# EAGLE library part ALEXIOS_5M570Z (library video-max5)
Altera MAX V CPLD, 570 Logic Elements
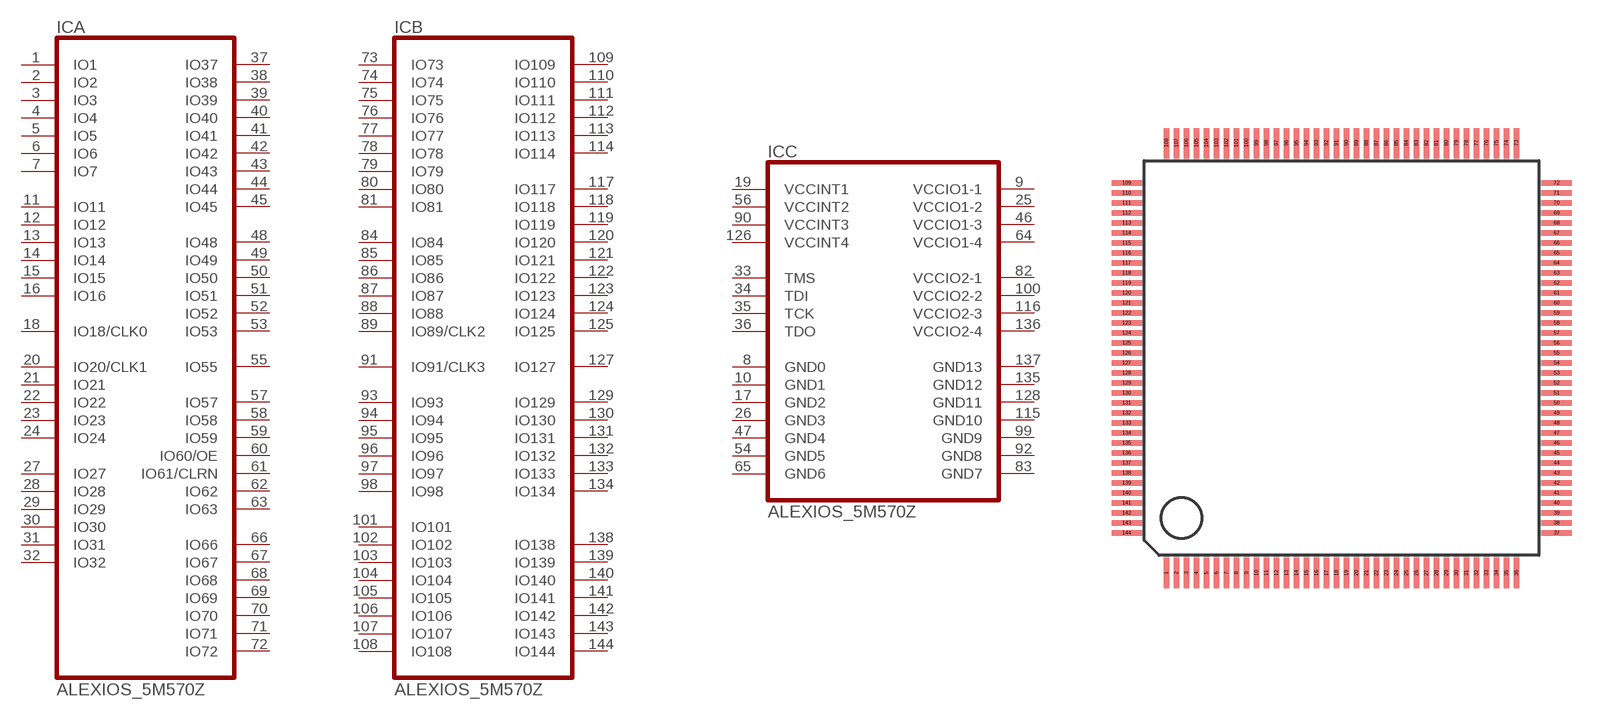
[diagram p0: symbol with the pads of ALEXIOS_TQFP144; footprint ALEXIOS_TQFP144]

Designator prefix IC; gates A=ALEXIOS_MAXV-BANK1 B=ALEXIOS_MAXV-BANK2 C=ALEXIOS_MAXV-POWER

## ALEXIOS_5M570ZT144  [ALEXIOS_TQFP144]
1  A:IO1
2  A:IO2
3  A:IO3
4  A:IO4
5  A:IO5
6  A:IO6
7  A:IO7
8  C:GND0  pwr
9  C:VCCIO1-1  pwr
10  C:GND1  pwr
11  A:IO11
12  A:IO12
13  A:IO13
14  A:IO14
15  A:IO15
16  A:IO16
17  C:GND2  pwr
18  A:IO18/CLK0
19  C:VCCINT1  pwr
20  A:IO20/CLK1
21  A:IO21
22  A:IO22
23  A:IO23
24  A:IO24
25  C:VCCIO1-2  pwr
26  C:GND3  pwr
27  A:IO27
28  A:IO28
29  A:IO29
30  A:IO30
31  A:IO31
32  A:IO32
33  C:TMS
34  C:TDI
35  C:TCK
36  C:TDO
37  A:IO37
38  A:IO38
39  A:IO39
40  A:IO40
41  A:IO41
42  A:IO42
43  A:IO43
44  A:IO44
45  A:IO45
46  C:VCCIO1-3  pwr
47  C:GND4  pwr
48  A:IO48
49  A:IO49
50  A:IO50
51  A:IO51
52  A:IO52
53  A:IO53
54  C:GND5  pwr
55  A:IO55
56  C:VCCINT2  pwr
57  A:IO57
58  A:IO58
59  A:IO59
60  A:IO60/OE
61  A:IO61/CLRN
62  A:IO62
63  A:IO63
64  C:VCCIO1-4  pwr
65  C:GND6  pwr
66  A:IO66
67  A:IO67
68  A:IO68
69  A:IO69
70  A:IO70
71  A:IO71
72  A:IO72
73  B:IO73
74  B:IO74
75  B:IO75
76  B:IO76
77  B:IO77
78  B:IO78
79  B:IO79
80  B:IO80
81  B:IO81
82  C:VCCIO2-1  pwr
83  C:GND7  pwr
84  B:IO84
85  B:IO85
86  B:IO86
87  B:IO87
88  B:IO88
89  B:IO89/CLK2
90  C:VCCINT3  pwr
91  B:IO91/CLK3
92  C:GND8  pwr
93  B:IO93
94  B:IO94
95  B:IO95
96  B:IO96
97  B:IO97
98  B:IO98
99  C:GND9  pwr
100  C:VCCIO2-2  pwr
101  B:IO101
102  B:IO102
103  B:IO103
104  B:IO104
105  B:IO105
106  B:IO106
107  B:IO107
108  B:IO108
109  B:IO109
110  B:IO110
111  B:IO111
112  B:IO112
113  B:IO113
114  B:IO114
115  C:GND10  pwr
116  C:VCCIO2-3  pwr
117  B:IO117
118  B:IO118
119  B:IO119
120  B:IO120
121  B:IO121
122  B:IO122
123  B:IO123
124  B:IO124
125  B:IO125
126  C:VCCINT4  pwr
127  B:IO127
128  C:GND11  pwr
129  B:IO129
130  B:IO130
131  B:IO131
132  B:IO132
133  B:IO133
134  B:IO134
135  C:GND12  pwr
136  C:VCCIO2-4  pwr
137  C:GND13  pwr
138  B:IO138
139  B:IO139
140  B:IO140
141  B:IO141
142  B:IO142
143  B:IO143
144  B:IO144

## Footprint ALEXIOS_TQFP144 (pad centres in mm)
Thin Quad Flat Pack
smd 0.27 x 1.5: 1 -8.75,-10.75; 2 -8.25,-10.75; 3 -7.75,-10.75; 4 -7.25,-10.75; 5 -6.75,-10.75; 6 -6.25,-10.75; 7 -5.75,-10.75; 8 -5.25,-10.75; 9 -4.75,-10.75; 10 -4.25,-10.75; 11 -3.75,-10.75; 12 -3.25,-10.75; 13 -2.75,-10.75; 14 -2.25,-10.75; 15 -1.75,-10.75; 16 -1.25,-10.75; 17 -0.75,-10.75; 18 -0.25,-10.75; 19 0.25,-10.75; 20 0.75,-10.75; 21 1.25,-10.75; 22 1.75,-10.75; 23 2.25,-10.75; 24 2.75,-10.75; 25 3.25,-10.75; 26 3.75,-10.75; 27 4.25,-10.75; 28 4.75,-10.75; 29 5.25,-10.75; 30 5.75,-10.75; 31 6.25,-10.75; 32 6.75,-10.75; 33 7.25,-10.75; 34 7.75,-10.75; 35 8.25,-10.75; 36 8.75,-10.75; 73 8.75,10.75; 74 8.25,10.75; 75 7.75,10.75; 76 7.25,10.75; 77 6.75,10.75; 78 6.25,10.75; 79 5.75,10.75; 80 5.25,10.75; 81 4.75,10.75; 82 4.25,10.75; 83 3.75,10.75; 84 3.25,10.75; 85 2.75,10.75; 86 2.25,10.75; 87 1.75,10.75; 88 1.25,10.75; 89 0.75,10.75; 90 0.25,10.75; 91 -0.25,10.75; 92 -0.75,10.75; 93 -1.25,10.75; 94 -1.75,10.75; 95 -2.25,10.75; 96 -2.75,10.75; 97 -3.25,10.75; 98 -3.75,10.75; 99 -4.25,10.75; 100 -4.75,10.75; 101 -5.25,10.75; 102 -5.75,10.75; 103 -6.25,10.75; 104 -6.75,10.75; 105 -7.25,10.75; 106 -7.75,10.75; 107 -8.25,10.75; 108 -8.75,10.75
smd 1.5 x 0.27: 37 10.75,-8.75; 38 10.75,-8.25; 39 10.75,-7.75; 40 10.75,-7.25; 41 10.75,-6.75; 42 10.75,-6.25; 43 10.75,-5.75; 44 10.75,-5.25; 45 10.75,-4.75; 46 10.75,-4.25; 47 10.75,-3.75; 48 10.75,-3.25; 49 10.75,-2.75; 50 10.75,-2.25; 51 10.75,-1.75; 52 10.75,-1.25; 53 10.75,-0.75; 54 10.75,-0.25; 55 10.75,0.25; 56 10.75,0.75; 57 10.75,1.25; 58 10.75,1.75; 59 10.75,2.25; 60 10.75,2.75; 61 10.75,3.25; 62 10.75,3.75; 63 10.75,4.25; 64 10.75,4.75; 65 10.75,5.25; 66 10.75,5.75; 67 10.75,6.25; 68 10.75,6.75; 69 10.75,7.25; 70 10.75,7.75; 71 10.75,8.25; 72 10.75,8.75; 109 -10.75,8.75; 110 -10.75,8.25; 111 -10.75,7.75; 112 -10.75,7.25; 113 -10.75,6.75; 114 -10.75,6.25; 115 -10.75,5.75; 116 -10.75,5.25; 117 -10.75,4.75; 118 -10.75,4.25; 119 -10.75,3.75; 120 -10.75,3.25; 121 -10.75,2.75; 122 -10.75,2.25; 123 -10.75,1.75; 124 -10.75,1.25; 125 -10.75,0.75; 126 -10.75,0.25; 127 -10.75,-0.25; 128 -10.75,-0.75; 129 -10.75,-1.25; 130 -10.75,-1.75; 131 -10.75,-2.25; 132 -10.75,-2.75; 133 -10.75,-3.25; 134 -10.75,-3.75; 135 -10.75,-4.25; 136 -10.75,-4.75; 137 -10.75,-5.25; 138 -10.75,-5.75; 139 -10.75,-6.25; 140 -10.75,-6.75; 141 -10.75,-7.25; 142 -10.75,-7.75; 143 -10.75,-8.25; 144 -10.75,-8.75